# EAGLE library part TFT_TOUCH (library epifib)
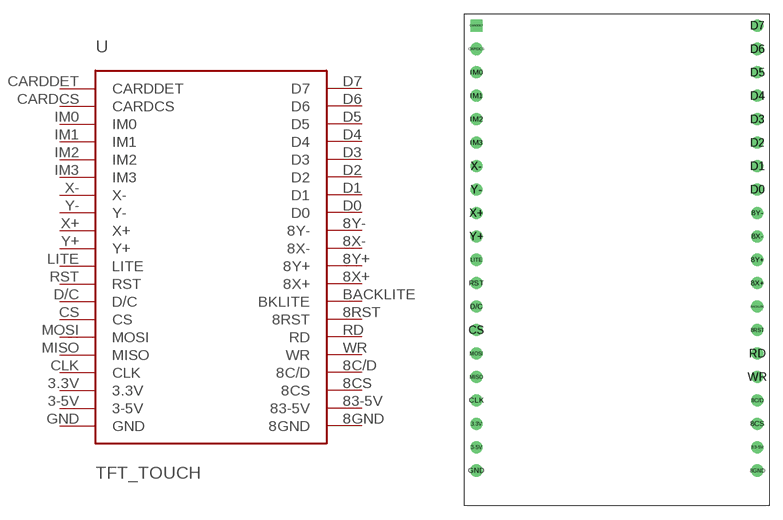
[diagram p3: symbol with the pads of TFT_TOUCH; footprint TFT_TOUCH]

Designator prefix U

## TFT_TOUCH  [TFT_TOUCH]
3-5V  3-5V
3.3V  3.3V
8C/D  8C/D
8CS  8CS
8GND  8GND
8RST  8RST
8X+  8X+
8X-  8X-
8Y+  8Y+
8Y-  8Y-
83-5V  83-5V
BACKLITE  BKLITE
CARDCS  CARDCS
CARDDET  CARDDET
CLK  CLK
CS  CS
D0  D0
D1  D1
D2  D2
D3  D3
D4  D4
D5  D5
D6  D6
D7  D7
D/C  D/C
GND  GND
IM0  IM0
IM1  IM1
IM2  IM2
IM3  IM3
LITE  LITE
MISO  MISO
MOSI  MOSI
RD  RD
RST  RST
WR  WR
X+  X+
X-  X-
Y+  Y+
Y-  Y-

## Footprint TFT_TOUCH (pad centres in mm)
drill 0.8: 3-5V 1.27,-46.99; 3.3V 1.27,-44.45; 8C/D 31.75,-41.91; 8CS 31.75,-44.45; 8GND 31.75,-49.53; 8RST 31.75,-34.29; 8X+ 31.75,-29.21; 8X- 31.75,-24.13; 8Y+ 31.75,-26.67; 8Y- 31.75,-21.59; 83-5V 31.75,-46.99; BACKLITE 31.75,-31.75; CARDCS 1.27,-3.81; CLK 1.27,-41.91; CS 1.27,-34.29; D0 31.75,-19.05; D1 31.75,-16.51; D2 31.75,-13.97; D3 31.75,-11.43; D4 31.75,-8.89; D5 31.75,-6.35; D6 31.75,-3.81; D7 31.75,-1.27; D/C 1.27,-31.75; GND 1.27,-49.53; IM0 1.27,-6.35; IM1 1.27,-8.89; IM2 1.27,-11.43; IM3 1.27,-13.97; LITE 1.27,-26.67; MISO 1.27,-39.37; MOSI 1.27,-36.83; RD 31.75,-36.83; RST 1.27,-29.21; WR 31.75,-39.37; X+ 1.27,-21.59; X- 1.27,-16.51; Y+ 1.27,-24.13; Y- 1.27,-19.05
drill 0.8 square: CARDDET 1.27,-1.27